# Altium footprint library mylib.PcbLib: 214 footprints (part 1 of 14)
Each footprint in its own frame and in the unit in brackets; x right, y up, seen from the top. Pads: shape width x height; smd on the part's side, far side on the other; paste and mask are expansions set on the pad; w line width, h text height; cw(c..) or ccw(c..) is an arc to the next point about the centre after c.
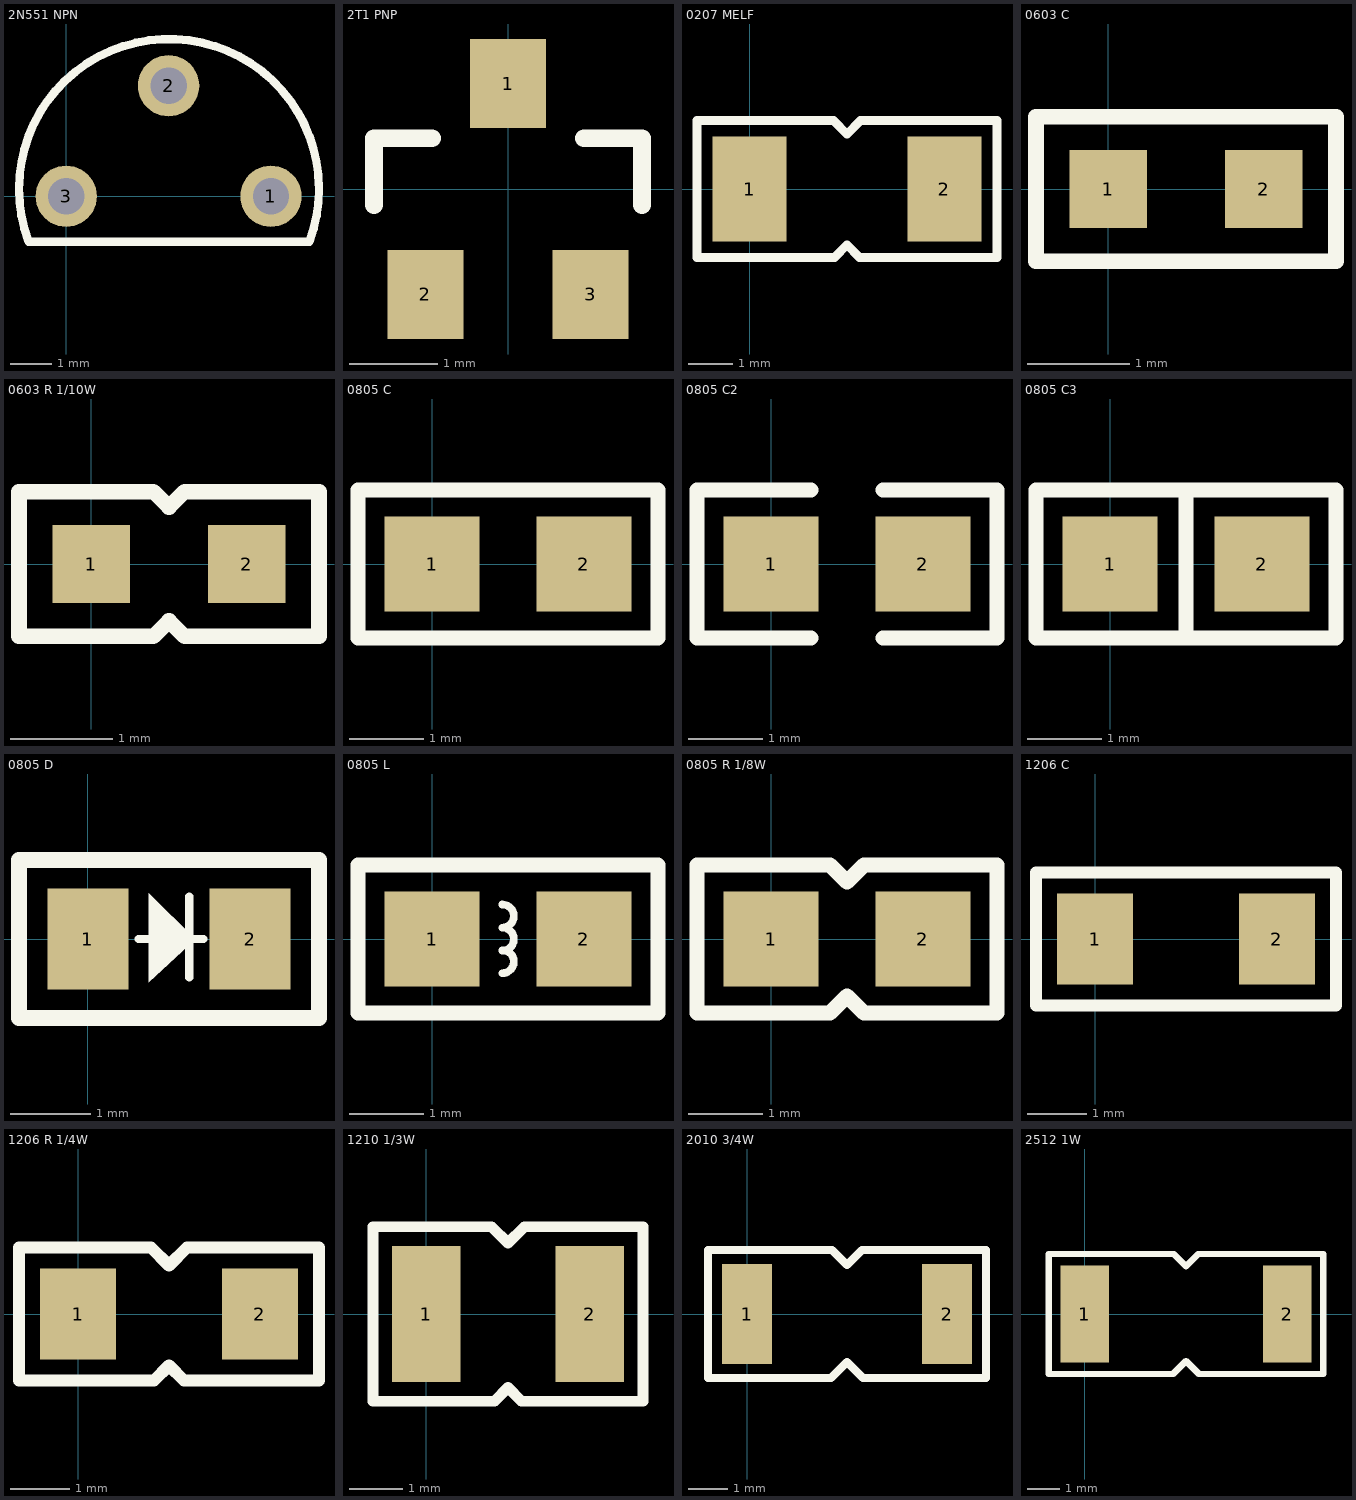
[diagram p0: the footprints below, top view; thin cyan lines are the x and y axes]

## 2N551 NPN [mil]
pads (3):
  round 59 hole 35: 1(196.85,0) 2(98.43,106.3) 3(0,0)
Top Overlay:
  lines w8: -36.2,-43.63 cw(c98.82,7.01) 233.9,-43.52 ; -36,-43.55 233.9,-43.55

## 2T1 PNP [mil]
pads (3):
  rect 34x40 smd: 1(0,47.24) 2(-37,-47.24) 3(37,-47.24)
Top Overlay:
  lines w8: -60,-7.24 -60,22.76 -34,22.76 ; 34,22.76 60,22.76 60,-7.24

## 0207 MELF [mil]
pads (2):
  rect 66x94 smd: 1(0,0) 2(174,0)
Top Overlay:
  lines w8: -47,-61 -47,61 75,61 87,49 99,61 221,61 221,-61 98,-61 87,-50 76,-61 -47,-61

## 0603 C [mil]
pads (2):
  rect 30x30 smd: 1(0,0) 2(60,0)
Top Overlay:
  lines w6: -28,-28 88,-28 88,28 -28,28 -28,-28

## 0603 R 1/10W [mil]
pads (2):
  rect 30x30 smd: 1(0,0) 2(60,0)
Top Overlay:
  lines w6: -28,-28 24,-28 30,-22 36,-28 88,-28 88,28 36,28 30,22 24,28 -28,28 -28,-28

## 0805 C [mil]
pads (2):
  rect 50x50 smd: 1(0,0) 2(80,0)
Top Overlay:
  lines w8: -39,-39 119,-39 119,39 -39,39 -39,-39

## 0805 C2 [mil]
pads (2):
  rect 50x50 smd: 1(0,0) 2(80,0)
Top Overlay:
  lines w8: 21,-39 -39,-39 -39,39 21,39 ; 59,-39 119,-39 119,39 59,39

## 0805 C3 [mil]
pads (2):
  rect 50x50 smd: 1(0,0) 2(80,0)
Top Overlay:
  lines w8: 40,-39 40,39 ; -39,-39 -39,39 119,39 119,-39 -39,-39

## 0805 D [mil]
pads (2):
  rect 40x50 smd: 1(0,0) 2(80,0)
Top Overlay:
  region: 30,22.5 53,0 30,-21.38
  lines w4: 25,0 57,0 ; 50,-19 50,21
  lines w8: -34,-39 114,-39 114,39 -34,39 -34,-39

## 0805 L [mil]
pads (2):
  rect 50x50 smd: 1(0,0) 2(80,0)
Top Overlay:
  lines w4: 37,-18 ccw(c37,-11.92) 37,-5.83 ; 37,-6.17 ccw(c37,-0.08) 37,6 ccw(c37,12.08) 37,18.17
  lines w8: -39,-39 -39,39 119,39 119,-39 -39,-39

## 0805 R 1/8W [mil]
pads (2):
  rect 50x50 smd: 1(0,0) 2(80,0)
Top Overlay:
  lines w8: -39,-39 31,-39 40,-30 49,-39 119,-39 119,39 49,39 40,30 31,39 -39,39 -39,-39

## 1206 C [mil]
pads (2):
  rect 50x60 smd: 1(0,0) 2(120,0)
Top Overlay:
  lines w8: -39,-44 159,-44 159,44 -39,44 -39,-44

## 1206 R 1/4W [mil]
pads (2):
  rect 50x60 smd: 1(0,0) 2(120,0)
Top Overlay:
  lines w8: -39,-44 50,-44 60,-34 70,-44 159,-44 159,44 72,44 60,32 48,44 -39,44 -39,-44

## 1210 1/3W [mil]
pads (2):
  rect 50x100 smd: 1(0,0) 2(120,0)
Top Overlay:
  lines w8: -39,-64 -39,64 48,64 60,52 72,64 159,64 159,-64 70,-64 60,-54 50,-64 -39,-64

## 2010 3/4W [mil]
pads (2):
  rect 50x100 smd: 1(0,0) 2(200,0)
Top Overlay:
  lines w7.87: -39,-64 84,-64 ; -39,64 85,64
  lines w8: -39,-64 -39,64 ; 84,-64 100,-48 116,-64 239,-64 239,64 115,64 100,49 85,64

## 2512 1W [mil]
pads (2):
  rect 60x120 smd: 1(0,0) 2(250,0)
Top Overlay:
  lines w8: -44,-74 109,-74 125,-58 141,-74 294,-74 294,74 140,74 125,59 110,74 -44,74 -44,-74